# Altium footprint library Trimpot.PcbLib: 1 footprints
Each footprint in its own frame and in the unit in brackets; x right, y up, seen from the top. Pads: shape width x height; smd on the part's side, far side on the other; paste and mask are expansions set on the pad; w line width, h text height; cw(c..) or ccw(c..) is an arc to the next point about the centre after c.
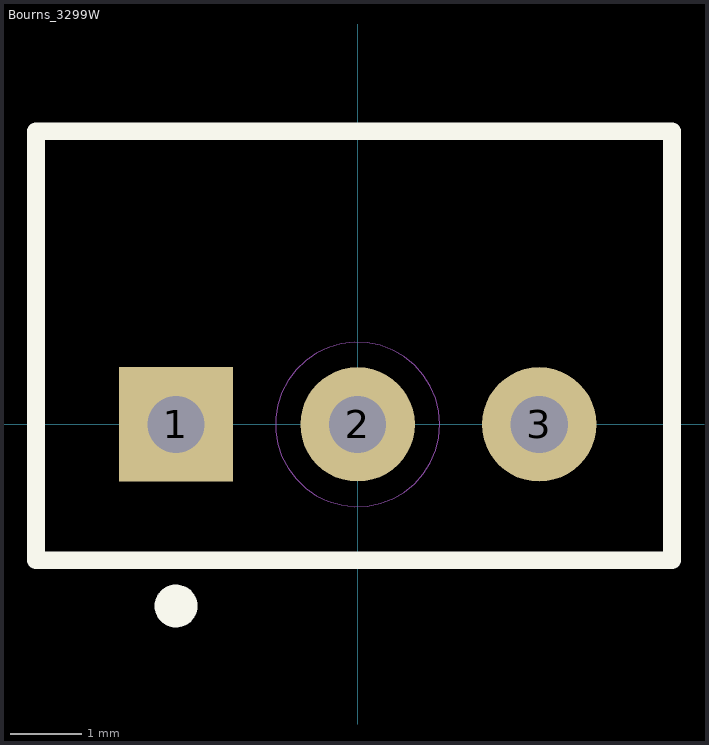
[diagram p0: the footprint, top view; thin cyan lines are the x and y axes]

## Bourns_3299W [mm] "Bourns Single-turn trimpot 2.54mm pitch"
height 10
pads (3):
  rect 1.6x1.6 hole 0.8: 1(-2.54,0)
  round 1.6 hole 0.8: 2(0,0) 3(2.54,0)
Top Overlay:
  circle w0.3: c-2.54,-2.54 r0.15
  lines w0.25: -4.5,-1.9 4.4,-1.9 4.4,4.1 -4.5,4.1 -4.5,-1.9
Top Assembly:
  text ".Comment" at -1.725,-3.429 h1
Top 3D Body (Mech13):
  circle w0.01: c0,0 r1.15
3D body: height 11.5, standoff 10, extent -4.249,1.551 -1.95,3.85
3D body: height 10, standoff 0, extent -4.5,-1.9 4.4,4.1